# EAGLE library part ARDUINO_PRO_MINI_PROG (library arduino_pro_mini)
Programming connector - JP1
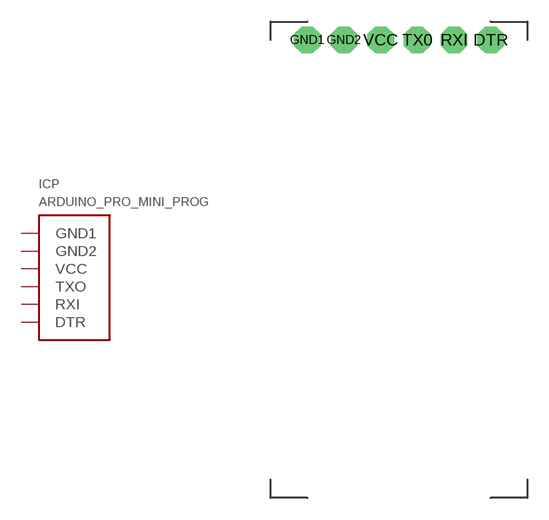
[diagram p1: symbol with the pads of ARDUINO_PRO_MINI_PROG; footprint ARDUINO_PRO_MINI_PROG]

Designator prefix ICP

## ARDUINO_PRO_MINI_PROG  [ARDUINO_PRO_MINI_PROG]
DTR  DTR
GND1  GND1
GND2  GND2
RXI  RXI
TX0  TXO
VCC  VCC

## Footprint ARDUINO_PRO_MINI_PROG (pad centres in mm)
drill 1 pad 1.85 octagon: DTR 6.35,15.24; GND1 -6.35,15.24; GND2 -3.81,15.24; RXI 3.81,15.24; TX0 1.27,15.24; VCC -1.27,15.24